# Altium schematic symbol library RGB_LED.SchLib: 1 symbol
Pins are listed as number, name and electrical type; pins without a type are passive.

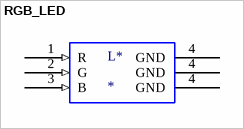
[diagram p0: symbol RGB_LED]

## RGB_LED
designator L*
footprint RGB_LED
pins: 1 R (in), 2 G (in), 3 B (in), 4 GND (power), 4 GND (power), 4 GND (power)